# EAGLE library part UB2-16H2 (library mita-akiba)
5A 125V-250V AC SW with R/G LED
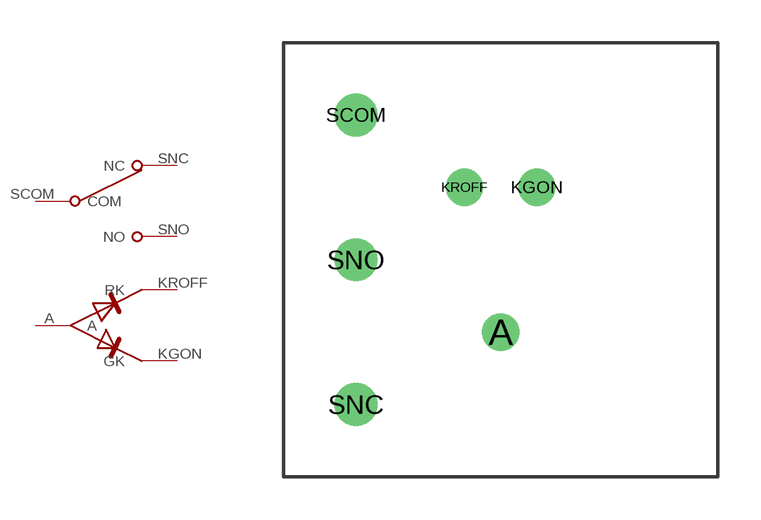
[diagram p21: symbol with the pads of UB2-16H2; footprint UB2-16H2]

Designator prefix -; gates G$1=SW3P G$2=LED2P

## UB2-16H2  [UB2-16H2]
A  G$2:A
KGON  G$2:GK
KROFF  G$2:RK
SCOM  G$1:COM
SNC  G$1:NC
SNO  G$1:NO

## Footprint UB2-16H2 (pad centres in mm)
drill 0.8: A 0,-2.54; KGON 1.27,2.54; KROFF -1.27,2.54
drill 1: SCOM -5.08,5.08; SNC -5.08,-5.08; SNO -5.08,0